# Altium schematic symbol library BQ25570RGRR.SchLib: 1 symbol
Pins are listed as number, name and electrical type; pins without a type are passive.

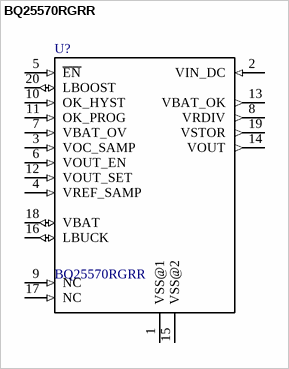
[diagram p0: symbol BQ25570RGRR]

## BQ25570RGRR
designator U?
Ultra Low Power Harvester Power Management IC with Boost Charger, and Nanopower Buck Converter 20-VQFN; MF: Texas Instruments; SnapEDA_Link: https://www.snapeda.com/parts/BQ25570RGRR/Texas%20Instruments/view-part/?ref=snap; Availability: Unavailable; MP: BQ25570RGRR; Price: None; Package: VQFN-20 Texas Instruments; Value: *
footprint QFN50P350X350X100-21N
pins: 1 VSS@1 (power), 2 VIN_DC (in), 3 VOC_SAMP (in), 4 VREF_SAMP (in), 5 ~{EN} (in), 6 VOUT_EN (in), 7 VBAT_OV (in), 8 VRDIV (out), 9 NC (in), 10 OK_HYST (in), 11 OK_PROG (in), 12 VOUT_SET (in), 13 VBAT_OK (out), 14 VOUT (out), 15 VSS@2 (power), 16 LBUCK (io), 17 NC (in), 18 VBAT (io), 19 VSTOR (out), 20 LBOOST (io)